# Altium footprint library PCB - POWER - DIP-16.PCBLIB: 1 footprints
Each footprint in its own frame and in the unit in brackets; x right, y up, seen from the top. Pads: shape width x height; smd on the part's side, far side on the other; paste and mask are expansions set on the pad; w line width, h text height; cw(c..) or ccw(c..) is an arc to the next point about the centre after c.
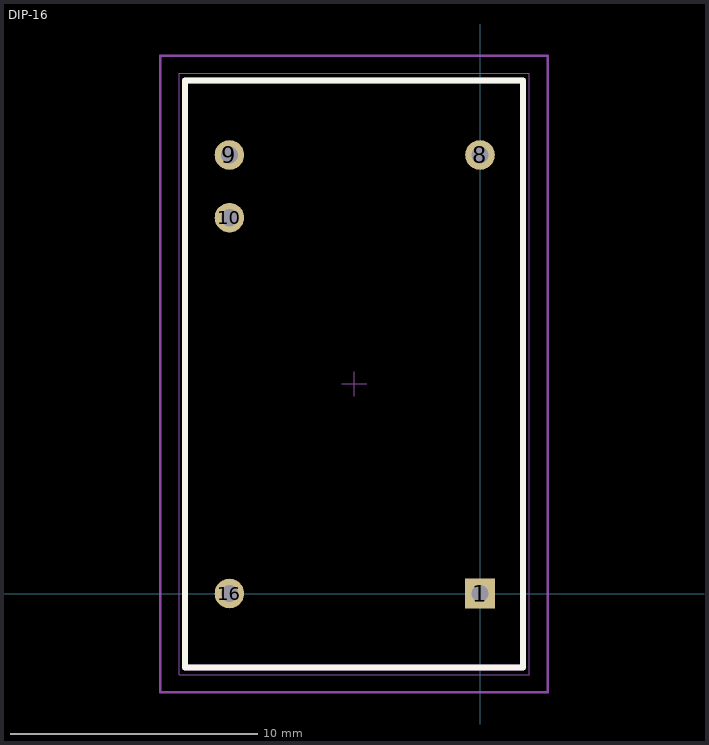
[diagram p0: the footprint, top view; thin cyan lines are the x and y axes]

## DIP-16 [mm]
pads (5):
  rect 1.2x1.2 hole 0.7: 1(0,0)
  round 1.2 hole 0.7: 8(0,17.78) 9(-10.16,17.78) 10(-10.16,15.24) 16(-10.16,0)
Top Overlay:
  lines w0.254: -11.96,-3 -11.96,20.8 1.74,20.8 1.74,-3 -11.96,-3
Top Assembly:
  lines w0.254: -11.96,-3 1.74,-3 1.74,20.8 -11.96,20.8 -11.96,-3
Top Courtyard:
  lines w0.05: -12.2,-3.3 2,-3.3 2,21.1 -12.2,21.1 -12.2,-3.3
Top Designator:
  text ".Designator" at 4.7,3.302 h1.5
Top Component Center:
  lines w0.05: -5.6,8.5 -4.6,8.5 ; -5.1,8 -5.1,9
Mechanical 15:
  lines w0.1: -12.96,-4 2.74,-4 2.74,21.8 -12.96,21.8 -12.96,-4
3D body "TEL_15-2423N.stp": height 10.2, standoff -3.8, extent -11.96,-3 1.74,20.8